# EAGLE library part MPU6050_SMD (library Accelerometer_Gyroscope)
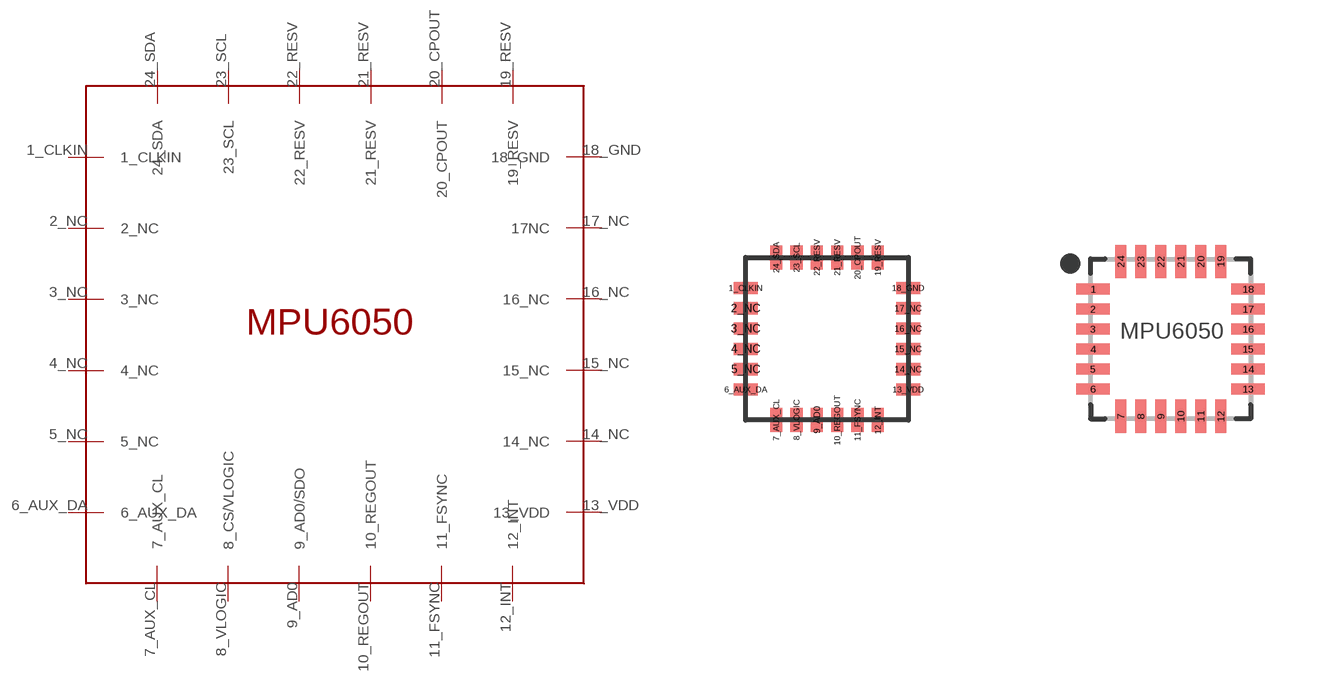
[diagram p0: symbol with the pads of MPU6050_SMD; footprints MPU6050_SMD, QFN50P400X400X100-24N]

Designator prefix -

## MPU6050_SMD  [MPU6050_SMD]
1_CLKIN  1_CLKIN
2_NC  2_NC
3_NC  3_NC
4_NC  4_NC
5_NC  5_NC
6_AUX_DA  6_AUX_DA
7_AUX_CL  7_AUX_CL
8_VLOGIC  8_CS/VLOGIC
9_AD0  9_AD0/SDO
10_REGOUT  10_REGOUT
11_FSYNC  11_FSYNC
12_INT  12_INT
13_VDD  13_VDD
14_NC  14_NC
15_NC  15_NC
16_NC  16_NC
17_NC  17NC
18_GND  18_GND
19_RESV  19_RESV
20_CPOUT  20_CPOUT
21_RESV  21_RESV
22_RESV  22_RESV
23_SCL  23_SCL
24_SDA  24_SDA

## MPU6050_SMDMPU6050+PACKAGE  [QFN50P400X400X100-24N]
1  1_CLKIN
2  2_NC
3  3_NC
4  4_NC
5  5_NC
6  6_AUX_DA
7  7_AUX_CL
8  8_CS/VLOGIC
9  9_AD0/SDO
10  10_REGOUT
11  11_FSYNC
12  12_INT
13  13_VDD
14  14_NC
15  15_NC
16  16_NC
17  17NC
18  18_GND
19  19_RESV
20  20_CPOUT
21  21_RESV
22  22_RESV
23  23_SCL
24  24_SDA

## Footprint MPU6050_SMD (pad centres in mm)
smd 0.61 x 0.305: 1_CLKIN 0,3.302; 2_NC 0,2.794; 3_NC 0,2.286; 4_NC 0,1.778; 5_NC 0,1.27; 6_AUX_DA 0,0.762; 13_VDD 4.064,0.762; 14_NC 4.064,1.27; 15_NC 4.064,1.778; 16_NC 4.064,2.286; 17_NC 4.064,2.794; 18_GND 4.064,3.302
smd 0.305 x 0.61: 7_AUX_CL 0.762,0; 8_VLOGIC 1.27,0; 9_AD0 1.778,0; 10_REGOUT 2.286,0; 11_FSYNC 2.794,0; 12_INT 3.302,0; 19_RESV 3.302,4.064; 20_CPOUT 2.794,4.064; 21_RESV 2.286,4.064; 22_RESV 1.778,4.064; 23_SCL 1.27,4.064; 24_SDA 0.762,4.064

## Footprint QFN50P400X400X100-24N (pad centres in mm)
24-QFN, 0.50 mm pitch, 4.00 X 4.00 X 1.00 mm body 24-pin QFN package with 0.50 mm pitch with body size 4.00 X 4.00 X 1.00 mm
smd 0.837 x 0.27: 1 -1.937,1.25; 2 -1.937,0.75; 3 -1.937,0.25; 4 -1.937,-0.25; 5 -1.937,-0.75; 6 -1.937,-1.25; 13 1.937,-1.25; 14 1.937,-0.75; 15 1.937,-0.25; 16 1.937,0.25; 17 1.937,0.75; 18 1.937,1.25
smd 0.27 x 0.837: 7 -1.25,-1.937; 8 -0.75,-1.937; 9 -0.25,-1.937; 10 0.25,-1.937; 11 0.75,-1.937; 12 1.25,-1.937; 19 1.25,1.937; 20 0.75,1.937; 21 0.25,1.937; 22 -0.25,1.937; 23 -0.75,1.937; 24 -1.25,1.937